# EAGLE library part 1051330001 (library maincomputer parts)
USB - micro B USB 2.0 Receptacle Connector 5 Position Surface Mount
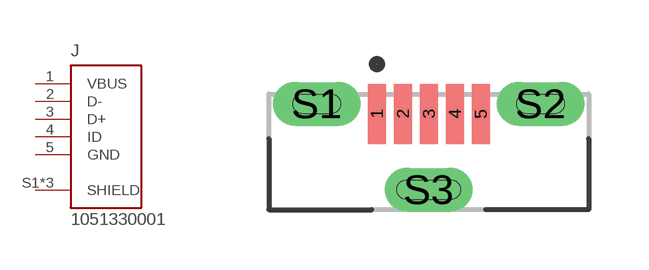
[diagram p4: symbol with the pads of MOLEX_1051330001; footprint MOLEX_1051330001]

Designator prefix J

## 1051330001 (ARROW_ELECTRONICS-PURCHASE-URL: https://snapeda.com/shop?store=Arrow+Electronics&id=423273; DESCRIPTION: USB - micro B USB 2.0 Receptacle Connector 5 Position Surface Mount; DIGI-KEY_PART_NUMBER: WM9734CT-ND; DIGIKEY-PURCHASE-URL: https://snapeda.com/shop?store=DigiKey&id=423273; MF: Molex; MP: 1051330001; PACKAGE: None)  [MOLEX_1051330001]
1  VBUS  pwr
2  D-
3  D+
4  ID
5  GND  pwr
S1  SHIELD  pas
S2  SHIELD  pas
S3  SHIELD  pas

## Footprint MOLEX_1051330001 (pad centres in mm)
smd 0.45 x 1.5: 1 -1.3,-0.25; 2 -0.65,-0.25; 3 0,-0.25; 4 0.65,-0.25; 5 1.3,-0.25
drill 0.5 pad 1.1 long: S1 -2.8,0; S2 2.8,0; S3 0,-2.15